# Altium footprint library slide_switch.PcbLib: 1 footprints
Each footprint in its own frame and in the unit in brackets; x right, y up, seen from the top. Pads: shape width x height; smd on the part's side, far side on the other; paste and mask are expansions set on the pad; w line width, h text height; cw(c..) or ccw(c..) is an arc to the next point about the centre after c.
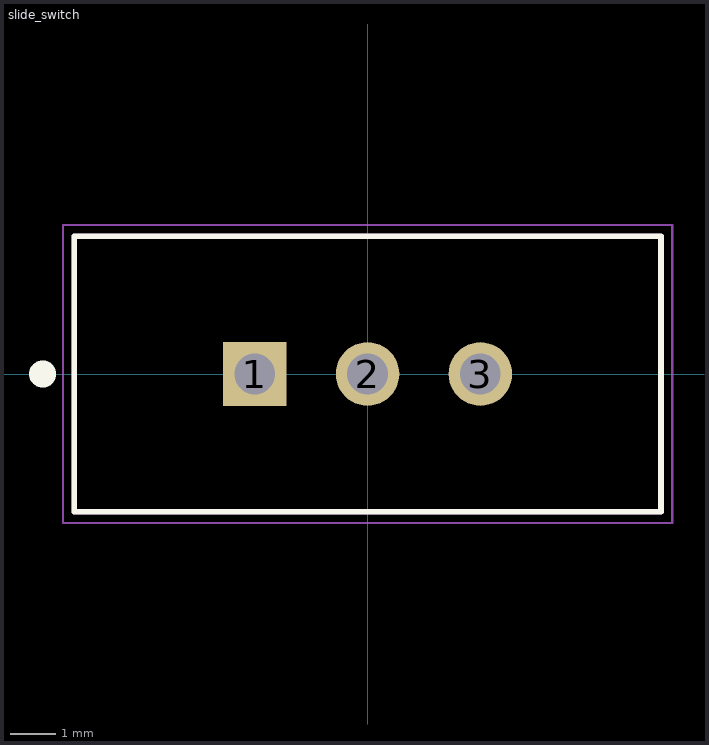
[diagram p0: the footprint, top view; thin cyan lines are the x and y axes]

## slide_switch [mm]
pads (3):
  rect 1.408x1.408 hole 0.9: 1(-2.5,0)
  round 1.408 hole 0.9: 2(0,0) 3(2.5,0)
Top Overlay:
  circle w0.3: c-7.2,0 r0.15
  lines w0.127: -6.5,-3.05 -6.5,3.05 6.5,3.05 6.5,-3.05 -6.5,-3.05
Mechanical 13:
  lines w0.127: -6.5,-3.05 -6.5,3.05 6.5,3.05 6.5,-3.05 -6.5,-3.05
Mechanical 15:
  lines w0.05: -6.75,-3.3 6.75,-3.3 6.75,3.3 -6.75,3.3 -6.75,-3.3
3D body "slide_switch.STEP": height 9.14, standoff -2.86, extent -6.5,-3.05 6.5,3.05